# EAGLE library part XBEE_PRO_XSC (library custom)
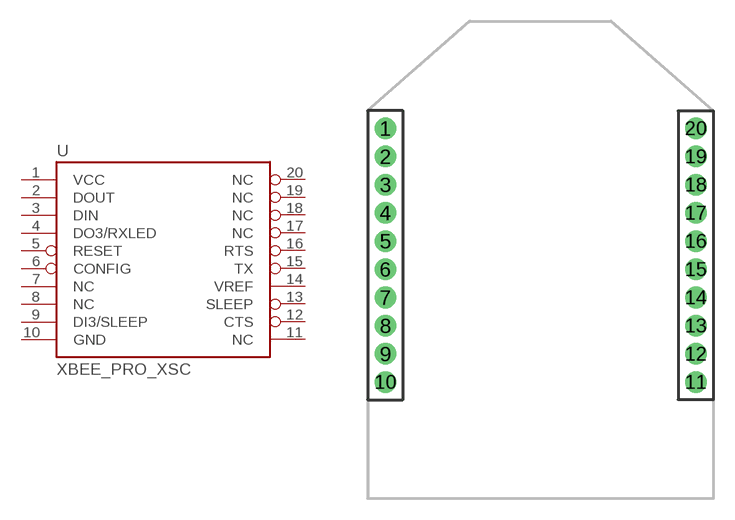
[diagram p28: symbol with the pads of XBEE_PTH; footprint XBEE_PTH]

Designator prefix -

## XBEE_PRO_XSC  [XBEE_PTH]
1  VCC  pwr
2  DOUT  out
3  DIN  in
4  DO3/RXLED  out
5  RESET
6  CONFIG  in
7  NC  nc
8  NC  nc
9  DI3/SLEEP  in
10  GND  pwr
11  NC  nc
12  CTS  out
13  SLEEP  out
14  VREF  in
15  TX  out
16  RTS  in
17  NC  nc
18  NC  nc
19  NC  nc
20  NC  nc

## Footprint XBEE_PTH (pad centres in mm)
drill 0.8 pad 1.524: 1 -11,18; 2 -11,16; 3 -11,14; 4 -11,12; 5 -11,10; 6 -11,8; 7 -11,6; 8 -11,4; 9 -11,2; 10 -11,0; 11 11,0; 12 11,2; 13 11,4; 14 11,6; 15 11,8; 16 11,10; 17 11,12; 18 11,14; 19 11,16; 20 11,18